# EAGLE library part BQ25300RTER (library Beechat_crank)
Battery Management Standalone 1-cell, 17-V, 3.0-A battery charger 16-WQFN -40 to 85 Source: Datasheet <https://www.ti.com/lit/ds/symlink/bq25300.pdf?ts=1623424163690&ref_url=https%3A%2F%2Fwww.ti.com%2Fstore%2Fti%2Fen%2Fp%2Fproduct%2F%3Fp%3DBQ25300RTER>
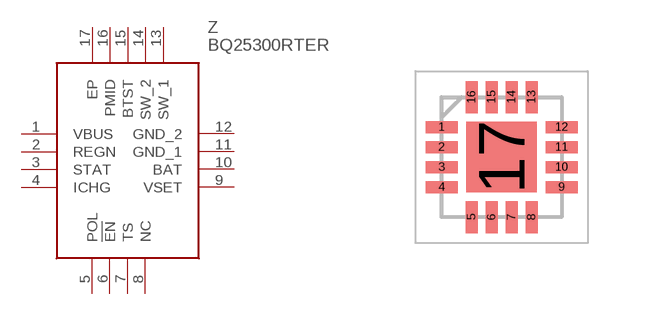
[diagram p1: symbol with the pads of QFN50P300X300X80-17N; footprint QFN50P300X300X80-17N]

Designator prefix Z

## BQ25300RTER (DESCRIPTION: Battery Management Standalone 1-cell, 17-V, 3.0-A battery charger 16-WQFN -40 to 85; HEIGHT: 0.8mm; MANUFACTURER_NAME: Texas Instruments; MANUFACTURER_PART_NUMBER: BQ25300RTER; MOUSER_PART_NUMBER: 595-BQ25300RTER; MOUSER_PRICE-STOCK: https://www.mouser.co.uk/ProductDetail/Texas-Instruments/BQ25300RTER?qs=iLbezkQI%252Bsg3JAZ7PkUvYA%3D%3D)  [QFN50P300X300X80-17N]
1  VBUS
2  REGN
3  STAT
4  ICHG
5  POL
6  !EN
7  TS
8  NC  nc
9  VSET
10  BAT
11  GND_1
12  GND_2
13  SW_1
14  SW_2
15  BTST
16  PMID
17  EP

## Footprint QFN50P300X300X80-17N (pad centres in mm)
RTE (S-PWQFN-N16)
smd 0.8 x 0.3: 1 -1.5,0.75; 2 -1.5,0.25; 3 -1.5,-0.25; 4 -1.5,-0.75; 9 1.5,-0.75; 10 1.5,-0.25; 11 1.5,0.25; 12 1.5,0.75
smd 0.3 x 0.8: 5 -0.75,-1.5; 6 -0.25,-1.5; 7 0.25,-1.5; 8 0.75,-1.5; 13 0.75,1.5; 14 0.25,1.5; 15 -0.25,1.5; 16 -0.75,1.5
smd 1.76 x 1.76: 17 0,0